# EAGLE library part HXD8357D (library Elektronik_lib)
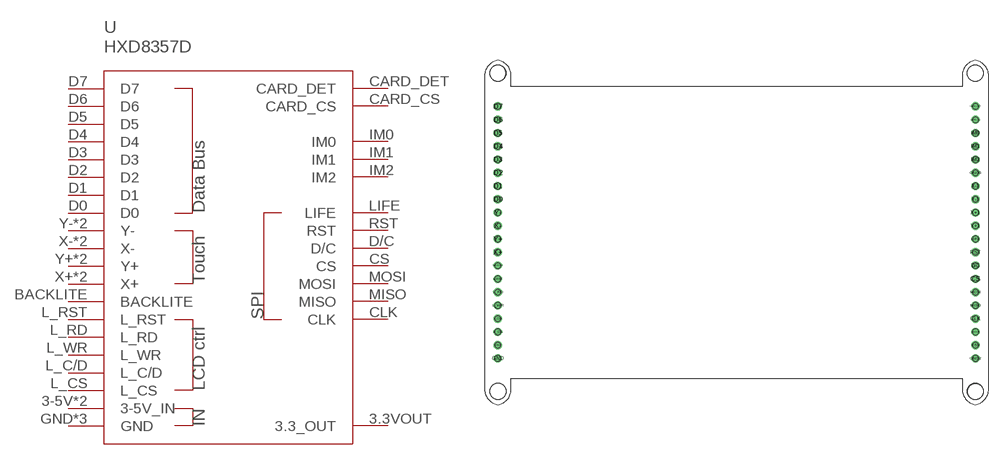
[diagram p4: symbol with the pads of HXD8357D; footprint HXD8357D]

Designator prefix -

## HXD8357D  [HXD8357D]
3-5V  3-5V_IN  pwr
3-5V1  3-5V_IN  pwr
3.3VOUT  3.3_OUT  pwr
BACKLITE  BACKLITE
CARD_CS  CARD_CS
CARD_DET  CARD_DET
CLK  CLK
CS  CS
D0  D0
D1  D1
D2  D2
D3  D3
D4  D4
D5  D5
D6  D6
D7  D7
D/C  D/C
GND  GND  pwr
GND2  GND  pwr
GND3  GND  pwr
IM0  IM0
IM1  IM1
IM2  IM2
L_C/D  L_C/D
L_CS  L_CS
L_RD  L_RD
L_RST  L_RST
L_WR  L_WR
LIFE  LIFE
MISO  MISO
MOSI  MOSI
RST  RST
X+  X+
X+1  X+
X-  X-
X-1  X-
Y+  Y+
Y+1  Y+
Y-  Y-
Y-1  Y-

## Footprint HXD8357D (pad centres in mm)
drill 1.05: 3-5V 91.44,-45.72; 3-5V1 0,-45.72; 3.3VOUT 91.44,-43.18; BACKLITE 0,-30.48; CARD_CS 91.44,-2.54; CARD_DET 91.44,0; CLK 91.44,-40.64; CS 91.44,-33.02; D0 0,-17.78; D1 0,-15.24; D2 0,-12.7; D3 0,-10.16; D4 0,-7.62; D5 0,-5.08; D6 0,-2.54; D7 0,0; D/C 91.44,-30.48; GND 0,-48.26; GND2 91.44,-48.26; GND3 91.44,-12.7; IM0 91.44,-5.08; IM1 91.44,-7.62; IM2 91.44,-10.16; L_C/D 0,-40.64; L_CS 0,-43.18; L_RD 0,-35.56; L_RST 0,-33.02; L_WR 0,-38.1; LIFE 91.44,-25.4; MISO 91.44,-38.1; MOSI 91.44,-35.56; RST 91.44,-27.94; X+ 0,-27.94; X+1 91.44,-20.32; X- 0,-22.86; X-1 91.44,-15.24; Y+ 0,-25.4; Y+1 91.44,-22.86; Y- 0,-20.32; Y-1 91.44,-17.78
hole 3.048 at 0,6.35
hole 3.048 at 91.44,6.35
hole 3.048 at 91.44,-54.61
hole 3.048 at 0,-54.61